# Altium footprint library LL4448.PcbLib: 1 footprints
Each footprint in its own frame and in the unit in brackets; x right, y up, seen from the top. Pads: shape width x height; smd on the part's side, far side on the other; paste and mask are expansions set on the pad; w line width, h text height; cw(c..) or ccw(c..) is an arc to the next point about the centre after c.
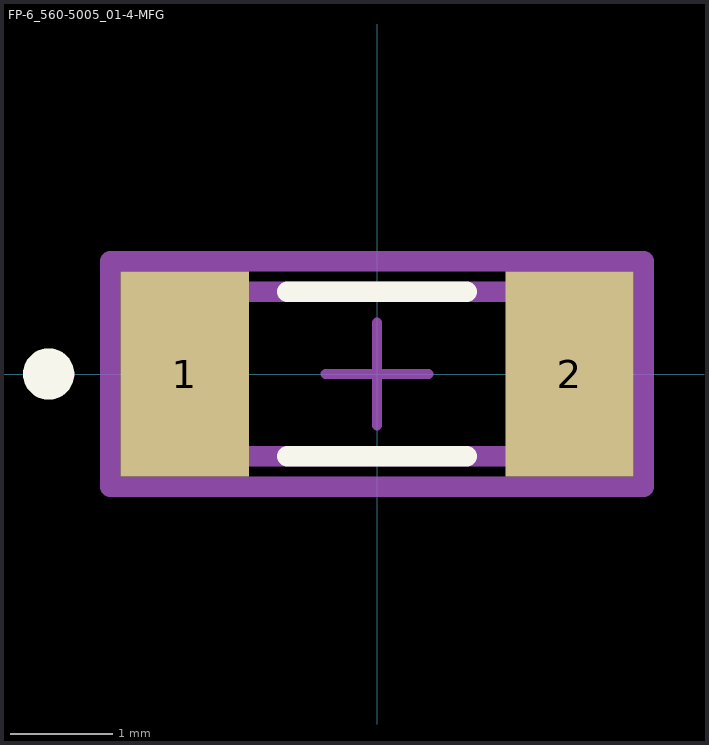
[diagram p0: the footprint, top view; thin cyan lines are the x and y axes]

## FP-6_560-5005_01-4-MFG [mm]
pads (2):
  rect 1.25x2 smd paste+0 mask+0: 1(-1.875,0) 2(1.875,0)
Top Overlay:
  circle w0.25: c-3.2,0 r0.125
  lines w0.2: -0.875,-0.8 0.875,-0.8 ; -0.875,0.8 0.875,0.8
Top Assembly:
  lines w0.2: -2.6,-1.1 -2.6,1.1 2.6,1.1 2.6,-1.1 -2.6,-1.1
  text ".Designator" at 0,-0.001 h1
Top 3D Body:
  lines w0.2: -1.85,-0.8 -1.85,0.8 1.85,0.8 1.85,-0.8 -1.85,-0.8
Top Courtyard:
  lines w0.2: -2.6,-1.1 -2.6,1.1 2.6,1.1 2.6,-1.1 -2.6,-1.1
Top Component Center:
  lines w0.1: -0.5,0 0.5,0 ; 0,-0.5 0,0.5
3D body "Diode_Vishay_Small_Signal_LL4448-GS08_eec.STEP": height 0.25, standoff 0, extent -2.6,-1.1 2.6,1.1